# Altium footprint library jx.PcbLib: 37 footprints (part 1 of 3)
Each footprint in its own frame and in the unit in brackets; x right, y up, seen from the top. Pads: shape width x height; smd on the part's side, far side on the other; paste and mask are expansions set on the pad; w line width, h text height; cw(c..) or ccw(c..) is an arc to the next point about the centre after c.
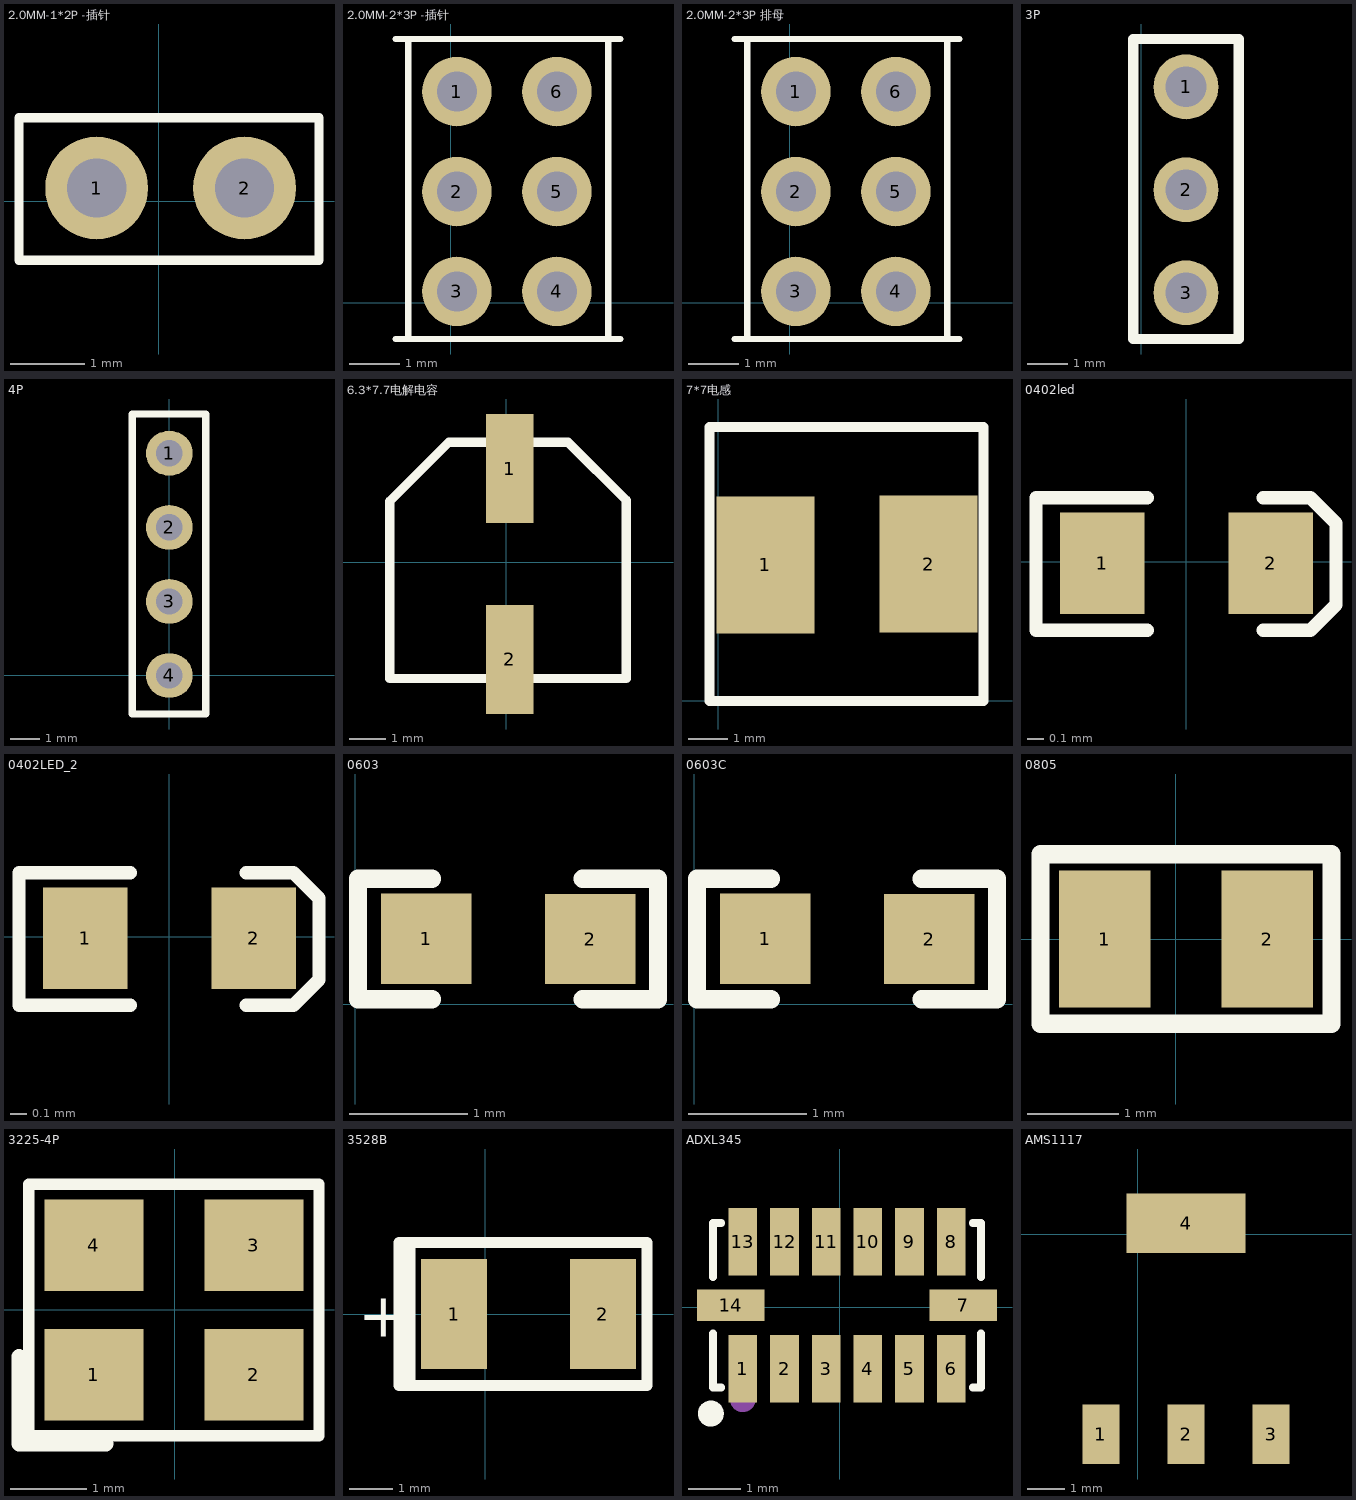
[diagram p0: the footprints below, top view; thin cyan lines are the x and y axes]

## 2.0MM-1*2P -插针 [mm]
pads (2):
  round 1.39 hole 0.8: 1(-0.838,0.178) 2(1.162,0.178)
Top Overlay:
  lines w0.127: -1.888,-0.797 -1.888,1.128 2.168,1.128 2.168,-0.797 -1.888,-0.797
3D body "HDR2.0-LI-2P.STEP": height 6.5, standoff -2.8, extent -1.872,-0.85 2.128,1.15

## 2.0MM-2*3P -插针 [mm]
pads (6):
  round 1.39 hole 0.8: 1(0.125,4.225) 2(0.125,2.225) 3(0.125,0.225) 4(2.125,0.225) 5(2.125,2.225) 6(2.125,4.225)
Top Overlay:
  lines w0.127: -1.104,-0.725 3.396,-0.725 ; -1.104,5.275 3.396,5.275 ; -0.85,-0.725 -0.85,5.275 ; 3.15,-0.725 3.15,5.275
3D body "HDR2.0-LI-3P.STEP": height 6.5, standoff -2.8, extent -0.875,-0.775 1.125,5.225
3D body "HDR2.0-LI-3P.STEP": height 6.5, standoff -2.8, extent 1.125,-0.775 3.125,5.225

## 2.0MM-2*3P 排母 [mm]
pads (6):
  round 1.39 hole 0.8: 1(0.125,4.225) 2(0.125,2.225) 3(0.125,0.225) 4(2.125,0.225) 5(2.125,2.225) 6(2.125,4.225)
Top Overlay:
  lines w0.127: -1.104,-0.725 3.396,-0.725 ; -1.104,5.275 3.396,5.275 ; -0.85,-0.725 -0.85,5.275 ; 3.15,-0.725 3.15,5.275
3D body "HDR2.0-M-LI-3P.STEP": height 5.5, standoff -2.27, extent -0.875,-0.775 1.125,5.225
3D body "HDR2.0-M-LI-3P.STEP": height 5.5, standoff -2.27, extent 1.125,-0.775 3.125,5.225

## 3P [mm]
pads (3):
  round 1.6 hole 1: 1(1.1,8.62) 2(1.1,6.08) 3(1.1,3.54)
Top Overlay:
  lines w0.254: -0.2,2.4 2.4,2.4 2.4,9.8 -0.2,9.8 -0.2,2.4
3D body "HDR2.54-1P.STEP": height 8.5, standoff -3, extent -0.17,7.35 2.37,9.89
3D body "HDR2.54-1P.STEP": height 8.5, standoff -3, extent -0.17,4.81 2.37,7.35
3D body "HDR2.54-1P.STEP": height 8.5, standoff -3, extent -0.17,2.27 2.37,4.81

## 4P [mm]
pads (4):
  oval 1.6x1.524 hole 0.9: 1(0,7.62) 2(0,5.08) 3(0,2.54) 4(0,0)
Top Overlay:
  lines w0.254: -1.27,-1.321 1.245,-1.321 1.245,8.966 -1.27,8.966 -1.27,-1.321
3D body "HDR2.54-1P.STEP": height 8.5, standoff -3, extent -1.27,-1.27 1.27,1.27
3D body "HDR2.54-1P.STEP": height 8.5, standoff -3, extent -1.27,1.27 1.27,3.81
3D body "HDR2.54-1P.STEP": height 8.5, standoff -3, extent -1.27,3.81 1.27,6.35
3D body "HDR2.54-1P.STEP": height 8.5, standoff -3, extent -1.27,6.35 1.27,8.89

## 6.3*7.7电解电容 [mm]
pads (2):
  rect 1.3x3 smd: 1(0.1,2.575) 2(0.1,-2.675)
Top Overlay:
  lines w0.254: 0.02,3.3 1.7,3.3 3.3,1.7 ; 0.025,-3.2 -3.2,-3.2 -3.2,1.675 -1.575,3.3 0.05,3.3 ; 0.075,-3.2 3.3,-3.2 ; 3.3,-3.125 3.3,0.1 ; 3.3,0.075 3.3,1.68
3D body "CM D(6.3X7.7).STEP": height 7.7, standoff -0.01, extent -3.249,-3.475 3.351,3.525

## 7*7电感 [mm]
pads (2):
  rect 2.5x3.5 smd: 1(1.2,3.475) 2(5.375,3.5)
Top Overlay:
  lines w0.254: -0.225,0 -0.225,7 6.775,7 6.775,0 -0.225,0
3D body: height 0.25, standoff 0, extent 6.658,1.759 6.861,5.289
3D body: height 0.25, standoff 0, extent -0.33,1.727 -0.127,5.258
3D body: height 3, standoff 0, extent -0.229,0.025 6.756,6.96

## 0402led [mm]
pads (2):
  rect 0.5x0.6 smd: 1(-0.497,-0.008) 2(0.503,-0.008)
Top Overlay:
  lines w0.08: -0.229,-0.406 -0.889,-0.406 -0.889,0.381 -0.229,0.381 ; 0.457,-0.406 0.66,-0.406 0.737,-0.406 0.889,-0.254 0.889,0.229 0.737,0.381 0.66,0.381 0.457,0.381
3D body: height 0.2, standoff 0, extent 0.406,-0.279 0.61,0.279
3D body: height 0.2, standoff 0, extent -0.635,-0.279 -0.432,0.279
3D body: height 0.3, standoff 0, extent -0.432,-0.279 0.406,0.279
3D body: height 0.2, standoff 0, extent -0.229,-0.279 0.203,0.279

## 0402LED_2 [mm]
pads (2):
  rect 0.5x0.6 smd: 1(-0.497,-0.008) 2(0.503,-0.008)
Top Overlay:
  lines w0.08: -0.229,-0.406 -0.889,-0.406 -0.889,0.381 -0.229,0.381 ; 0.457,-0.406 0.66,-0.406 0.737,-0.406 0.889,-0.254 0.889,0.229 0.737,0.381 0.66,0.381 0.457,0.381
3D body: height 0.2, standoff 0, extent 0.406,-0.279 0.61,0.279
3D body: height 0.2, standoff 0, extent -0.635,-0.279 -0.432,0.279
3D body: height 0.3, standoff 0, extent -0.432,-0.279 0.406,0.279
3D body: height 0.2, standoff 0, extent -0.229,-0.279 0.203,0.279

## 0603 [mil]
pads (2):
  rect 30x30 smd: 1(23.62,21.81) 2(78.12,21.75)
Top Overlay:
  lines w6: 25.62,1.75 0.98,1.75 0.98,41.75 25.62,41.75 ; 75.62,1.75 100.62,1.75 100.62,41.75 75.62,41.75
3D body "0603_R.step": height 20.79, standoff 0.79, extent 18.96,5.77 81.96,37.77

## 0603C [mil]
pads (2):
  rect 30x30 smd: 1(23.62,21.81) 2(78.12,21.75)
Top Overlay:
  lines w6: 25.62,1.75 0.98,1.75 0.98,41.75 25.62,41.75 ; 75.62,1.75 100.62,1.75 100.62,41.75 75.62,41.75
3D body "0603_C.step": height 34.65, standoff 0, extent 19.5,6 82.49,37.89

## 0805 [mm]
pads (2):
  rect 1x1.5 smd: 1(-0.775,0) 2(1,0)
Top Overlay:
  lines w0.2: -1.475,-0.925 1.7,-0.925 1.7,0.925 -1.475,0.925 -1.475,-0.925
3D body: height 1, standoff 0, extent 0.813,-0.737 1.194,0.737
3D body: height 1, standoff 0, extent -1.092,-0.737 -0.737,0.737
3D body: height 1, standoff 0, extent -0.737,-0.737 0.813,0.737

## 3225-4P [mm]
pads (4):
  rect 1.3x1.2 smd: 1(-1.061,-0.852) 2(1.039,-0.852) 3(1.039,0.848) 4(-1.061,0.848)
Top Overlay:
  lines w0.15: -1.916,-1.653 -1.916,1.649 1.894,1.649 1.894,-1.653 -1.916,-1.653
  lines w0.2: -2.043,-1.755 -0.9,-1.755 ; -2.043,-1.729 -2.043,-0.612
3D body "OSC 3225-4P.STEP": height 0.7, standoff -0.02, extent -1.625,-1.281 1.575,1.219

## 3528B [mil]
pads (2):
  rect 60x100 smd: 1(-28.36,0) 2(106.64,0)
Top Overlay:
  lines w10: -68.36,-65 -68.36,65 ; -78.36,-65 146.64,-65 146.64,65 -78.36,65 -78.36,-65
  text "+" at -115.64,-20.66 h40
3D body "CD B(3528).STEP": height 74.84, standoff -0.3, extent -32.73,-54.95 105.09,55.28

## ADXL345 [mm]
pads (14):
  rect 0.55x1.3 smd: 1(-1.862,-1.181) 2(-1.062,-1.181) 3(-0.263,-1.181) 4(0.538,-1.181) 5(1.337,-1.181) 6(2.137,-1.181) 8(2.137,1.259) 9(1.337,1.259) 10(0.538,1.259) 11(-0.263,1.259) 12(-1.062,1.259) 13(-1.862,1.259)
  rect 1.3x0.6 smd: 7(2.368,0.039) 14(-2.093,0.039)
Top Overlay:
  circle w0.25: c-2.477,-2.04 r0.125
  lines w0.152: -2.439,-0.501 -2.439,-1.537 -2.277,-1.537 ; -2.439,0.58 -2.439,1.615 -2.277,1.615 ; 2.552,-1.537 2.714,-1.537 2.714,-0.501 ; 2.552,1.615 2.714,1.615 2.714,0.58
Mechanical 15:
  circle w0.25: c-1.863,-1.761 r0.125
3D body: height 0.2, standoff 0, extent -2.143,-1.549 2.362,1.626

## AMS1117 [mm]
pads (4):
  rect 1x1.6 smd: 1(-1,-5.4) 2(1.3,-5.4) 3(3.6,-5.4)
  rect 3.2x1.6 smd: 4(1.3,0.3)
3D body "SOT223.STEP": height 1.65, standoff -0.02, extent -2.007,-6.048 4.493,0.968